# EAGLE library part LOGIK_AND_SN75451 (library robo_ag)
Logikgatter Reichelt: SN 75451 AND Open-Collector 5V
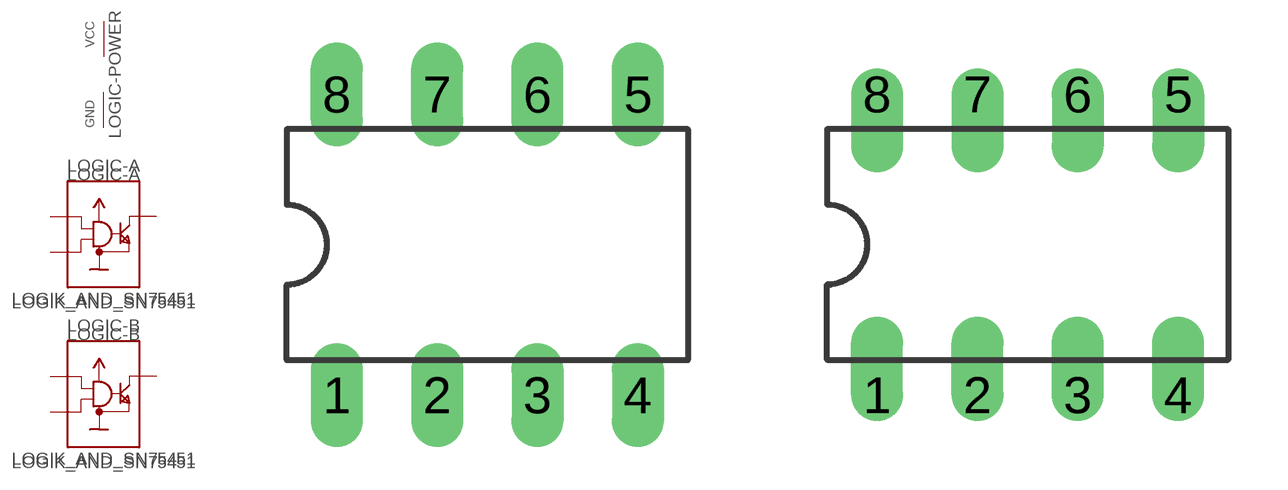
[diagram p8: symbol with the pads of IC_DIL08; footprints IC_DIL08, IC_DIL08_IN]

Designator prefix LOGIC; gates -POWER=POWER -A=LOGIK_AND -B=LOGIK_AND

## LOGIK_AND_SN75451  [IC_DIL08]
1  -A:I_1  in
2  -A:I_2  in
3  -A:O  oc
4  -POWER:GND  pwr
5  -B:O  oc
6  -B:I_1  in
7  -B:I_2  in
8  -POWER:VCC  pwr

## LOGIK_AND_SN75451-IN  [IC_DIL08_IN]
Pads as for IC_DIL08

## LOGIK_AND_SN75451-OUT  [IC_DIL08_OUT]
Pads as for IC_DIL08

## Footprint IC_DIL08 (pad centres in mm)
Dual In Line Package
drill 0.813 long: 1 -3.81,-3.81; 2 -1.27,-3.81; 3 1.27,-3.81; 4 3.81,-3.81; 5 3.81,3.81; 6 1.27,3.81; 7 -1.27,3.81; 8 -3.81,3.81

## Footprint IC_DIL08_IN (pad centres in mm)
Dual In Line Package
drill 0.813 offset: 1 -3.81,-3.81; 2 -1.27,-3.81; 3 1.27,-3.81; 4 3.81,-3.81; 5 3.81,3.81; 6 1.27,3.81; 7 -1.27,3.81; 8 -3.81,3.81

## Footprint IC_DIL08_OUT (pad centres in mm)
Dual In Line Package
drill 0.813 offset: 1 -3.81,-3.81; 2 -1.27,-3.81; 3 1.27,-3.81; 4 3.81,-3.81; 5 3.81,3.81; 6 1.27,3.81; 7 -1.27,3.81; 8 -3.81,3.81